# EAGLE library part CPU_EXP_PORT (library F030NG)
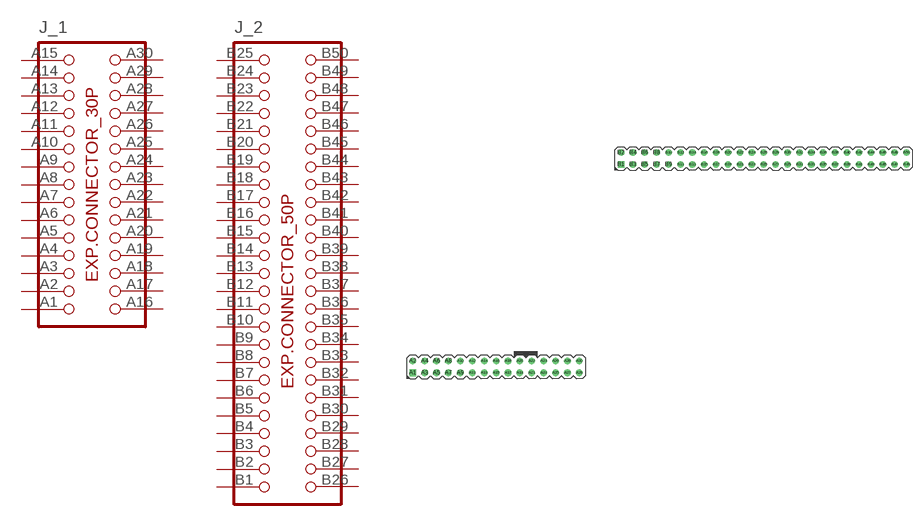
[diagram p12: symbol with the pads of PH_CPU_EXP_PORT; footprint PH_CPU_EXP_PORT]

Designator prefix J; gates _1=EXP_CONN_30P _2=EXP_CONN_50P

## CPU_EXP_PORT  [PH_CPU_EXP_PORT]
A1  _1:1  pas
A2  _1:2  pas
A3  _1:3  pas
A4  _1:4  pas
A5  _1:5  pas
A6  _1:6  pas
A7  _1:7  pas
A8  _1:8  pas
A9  _1:9  pas
A10  _1:10  pas
A11  _1:11  pas
A12  _1:12  pas
A13  _1:13  pas
A14  _1:14  pas
A15  _1:15  pas
A16  _1:16  pas
A17  _1:17  pas
A18  _1:18  pas
A19  _1:19  pas
A20  _1:20  pas
A21  _1:21  pas
A22  _1:22  pas
A23  _1:23  pas
A24  _1:24  pas
A25  _1:25  pas
A26  _1:26  pas
A27  _1:27  pas
A28  _1:28  pas
A29  _1:29  pas
A30  _1:30  pas
B1  _2:1  pas
B2  _2:2  pas
B3  _2:3  pas
B4  _2:4  pas
B5  _2:5  pas
B6  _2:6  pas
B7  _2:7  pas
B8  _2:8  pas
B9  _2:9  pas
B10  _2:10  pas
B11  _2:11  pas
B12  _2:12  pas
B13  _2:13  pas
B14  _2:14  pas
B15  _2:15  pas
B16  _2:16  pas
B17  _2:17  pas
B18  _2:18  pas
B19  _2:19  pas
B20  _2:20  pas
B21  _2:21  pas
B22  _2:22  pas
B23  _2:23  pas
B24  _2:24  pas
B25  _2:25  pas
B26  _2:26  pas
B27  _2:27  pas
B28  _2:28  pas
B29  _2:29  pas
B30  _2:30  pas
B31  _2:31  pas
B32  _2:32  pas
B33  _2:33  pas
B34  _2:34  pas
B35  _2:35  pas
B36  _2:36  pas
B37  _2:37  pas
B38  _2:38  pas
B39  _2:39  pas
B40  _2:40  pas
B41  _2:41  pas
B42  _2:42  pas
B43  _2:43  pas
B44  _2:44  pas
B45  _2:45  pas
B46  _2:46  pas
B47  _2:47  pas
B48  _2:48  pas
B49  _2:49  pas
B50  _2:50  pas

## Footprint PH_CPU_EXP_PORT (pad centres in mm)
PIN HEADER
drill 0.9 square: A1 0,0; B1 44.45,44.45
drill 0.9: A2 0,2.54; A3 2.54,0; A4 2.54,2.54; A5 5.08,0; A6 5.08,2.54; A7 7.62,0; A8 7.62,2.54; A9 10.16,0; A10 10.16,2.54; A11 12.7,0; A12 12.7,2.54; A13 15.24,0; A14 15.24,2.54; A15 17.78,0; A16 17.78,2.54; A17 20.32,0; A18 20.32,2.54; A19 22.86,0; A20 22.86,2.54; A21 25.4,0; A22 25.4,2.54; A23 27.94,0; A24 27.94,2.54; A25 30.48,0; A26 30.48,2.54; A27 33.02,0; A28 33.02,2.54; A29 35.56,0; A30 35.56,2.54; B2 44.45,46.99; B3 46.99,44.45; B4 46.99,46.99; B5 49.53,44.45; B6 49.53,46.99; B7 52.07,44.45; B8 52.07,46.99; B9 54.61,44.45; B10 54.61,46.99; B11 57.15,44.45; B12 57.15,46.99; B13 59.69,44.45; B14 59.69,46.99; B15 62.23,44.45; B16 62.23,46.99; B17 64.77,44.45; B18 64.77,46.99; B19 67.31,44.45; B20 67.31,46.99; B21 69.85,44.45; B22 69.85,46.99; B23 72.39,44.45; B24 72.39,46.99; B25 74.93,44.45; B26 74.93,46.99; B27 77.47,44.45; B28 77.47,46.99; B29 80.01,44.45; B30 80.01,46.99; B31 82.55,44.45; B32 82.55,46.99; B33 85.09,44.45; B34 85.09,46.99; B35 87.63,44.45; B36 87.63,46.99; B37 90.17,44.45; B38 90.17,46.99; B39 92.71,44.45; B40 92.71,46.99; B41 95.25,44.45; B42 95.25,46.99; B43 97.79,44.45; B44 97.79,46.99; B45 100.33,44.45; B46 100.33,46.99; B47 102.87,44.45; B48 102.87,46.99; B49 105.41,44.45; B50 105.41,46.99